# Altium footprint library SRP5030T.PcbLib: 1 footprints
Each footprint in its own frame and in the unit in brackets; x right, y up, seen from the top. Pads: shape width x height; smd on the part's side, far side on the other; paste and mask are expansions set on the pad; w line width, h text height; cw(c..) or ccw(c..) is an arc to the next point about the centre after c.
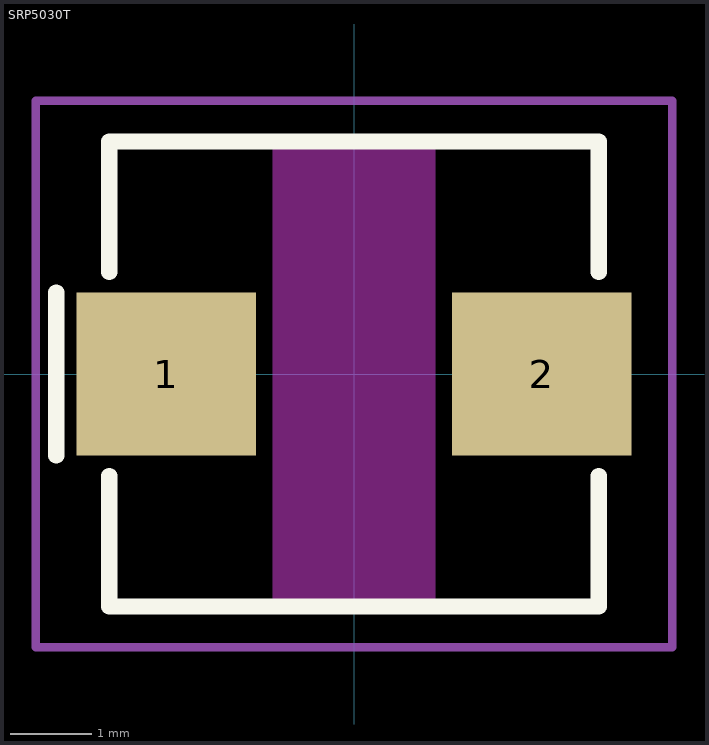
[diagram p0: the footprint, top view; thin cyan lines are the x and y axes]

## SRP5030T [mm]
pads (2):
  rect 2.2x2 smd: 1(-2.3,0) 2(2.3,0)
Top Layer keep-out:
  rectangle: -1,-2.85 1,2.85
Top Overlay:
  lines w0.2: -3.65,-1 -3.65,1 ; -3,-1.25 -3,-2.85 3,-2.85 3,-1.25 ; -3,1.25 -3,2.85 3,2.85 3,1.25
Top Courtyard:
  lines w0.1: -3.9,-3.35 -3,-3.35 3.9,-3.35 3.9,3.35 -3.9,3.35 -3.9,-3.35
3D body "User Library-SRP-5030 Inductor.step": height 2.8, standoff 0, extent -3,-2.85 3,2.85